# Altium integrated library My_DC_converters.IntLib: 2 symbols
Pins are listed as number, name and electrical type; pins without a type are passive.

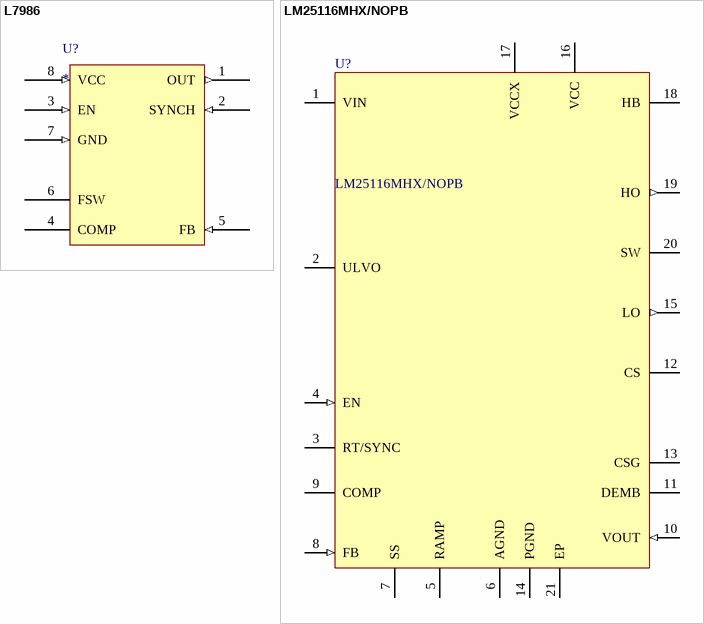
[diagram p0: symbols L7986 to LM25116MHX/NOPB]

## L7986
designator U?
3 A step-down switching regulator; HSOP8
footprint HSOP8_L
pins: 1 OUT (out), 2 SYNCH (in), 3 EN (in), 4 COMP, 5 FB (in), 6 FSW, 7 GND (in), 8 VCC (in)

## LM25116MHX/NOPB
designator U?
Wide Range Synchronous Buck Controller, 20-pin TSSOP-EP, Pb-Free; Manufacturer: Texas Instruments; CompType: Switcher; PowerWise: Y; PackageTopMarking: NSUZXYTT*LM25116*MH; PackageDescription: Molded TSSOP, Jedec, 6.5 x 4.4 x 0.9mm Body, 20 Lead, 0.65mm Pitch, Exposed Pad; PinCount: 20; Code_JEDEC: MO-153-ACT; ComponentLink1URL: http://www.ti.com/general/docs/lit/getliterature.tsp?genericPartNumber=LM25116&fileType=pdf; RoHS: Y; ComponentLink1Description: Datasheet URL; PackageReference: PWP0020A
footprint PWP0020A_L (SOP, 20-Leads, Body 6.6x4.5mm, Pitch 0.65mm, Thermal Pad 4.2x3mm, IPC High Density)
footprint PWP0020A_N (SOP, 20-Leads, Body 6.6x4.5mm, Pitch 0.65mm, Thermal Pad 4.2x3mm, IPC Medium Density)
footprint PWP0020A_M (SOP, 20-Leads, Body 6.6x4.5mm, Pitch 0.65mm, Thermal Pad 4.2x3mm, IPC Low Density)
pins: 1 VIN (power), 2 ULVO, 3 RT/SYNC, 4 EN (in), 5 RAMP, 6 AGND (power), 7 SS, 8 FB (in), 9 COMP, 10 VOUT (in), 11 DEMB, 12 CS, 13 CSG, 14 PGND (power), 15 LO (out), 16 VCC (power), 17 VCCX (power), 18 HB, 19 HO (out), 20 SW (power), 21 EP (power)